# Altium footprint library sd_card.PcbLib: 1 footprints
Each footprint in its own frame and in the unit in brackets; x right, y up, seen from the top. Pads: shape width x height; smd on the part's side, far side on the other; paste and mask are expansions set on the pad; w line width, h text height; cw(c..) or ccw(c..) is an arc to the next point about the centre after c.
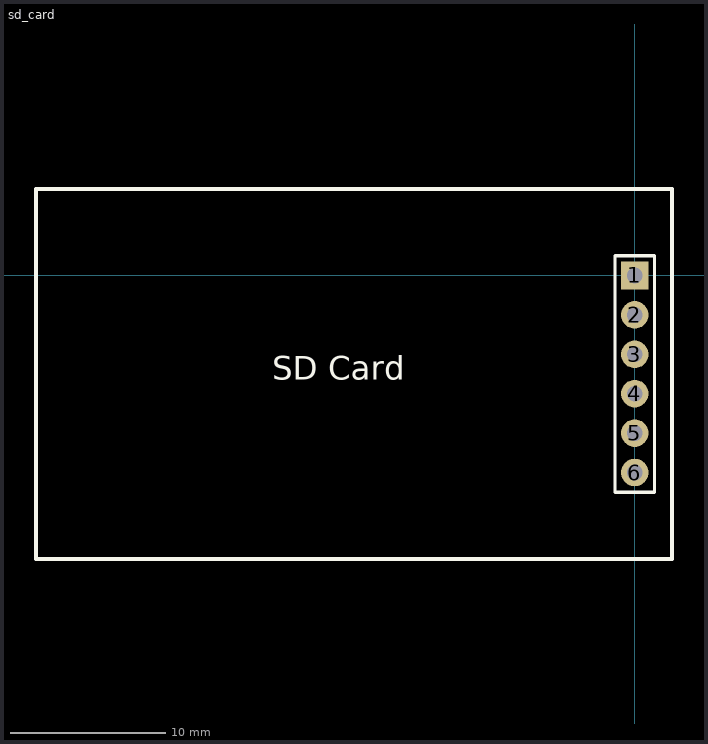
[diagram p0: the footprint, top view; thin cyan lines are the x and y axes]

## sd_card [mil]
pads (6):
  rect 70x70 hole 40: 1(0,0)
  round 70 hole 40: 2(0,-100) 3(0,-200) 4(0,-300) 5(0,-400) 6(0,-500)
Top Overlay:
  lines w7.87: -50,-550 50,-550 50,50 -50,50 -50,-550
  lines w10: -1520,-720 95,-720 95,220 -1520,220 -1520,-720
  text "SD Card" at -920,-265 h60
3D body "leitor microsd.step": height 229.09, standoff 110, extent -1520,-722.44 94.17,222.44